# EAGLE library part AP5100 (library Regulator)
The AP5100 is a current mode step-down converter with a built-in power MOSFET to enable smallest solution size power conversion. With the low series resistance power switch it enables a constant output current of up to 1.2A over a wide input supply range. The load and line regulation has excellent response time over the operating input voltage and temperature range. The AP5100 is self protected, through a cycle-by-cycle current limiting algorithm and an on chip thermal protection. The AP5100 will provide the voltage conversion with a low count of widely available standard external components. The AP5100 is available in SOT26 package.
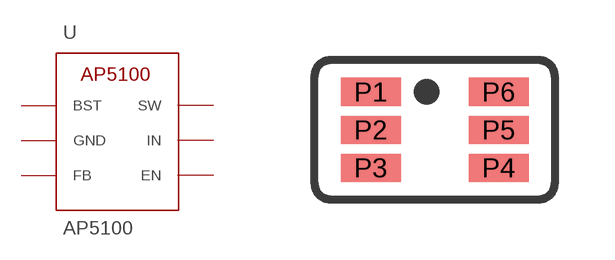
[diagram p11: symbol with the pads of SOT-26; footprint SOT-26]

Designator prefix U

## AP5100  [SOT-26]
P1  BST
P2  GND  pwr
P3  FB
P4  EN
P5  IN
P6  SW

## Footprint SOT-26 (pad centres in mm)
smd 1.5 x 0.7: P1 -0.4,0; P2 -0.4,-0.95; P3 -0.4,-1.9; P4 2.8,-1.9; P5 2.8,-0.95; P6 2.8,0